# Altium footprint library WE-MAPI.PcbLib: 10 footprints
Each footprint in its own frame and in the unit in brackets; x right, y up, seen from the top. Pads: shape width x height; smd on the part's side, far side on the other; paste and mask are expansions set on the pad; w line width, h text height; cw(c..) or ccw(c..) is an arc to the next point about the centre after c.
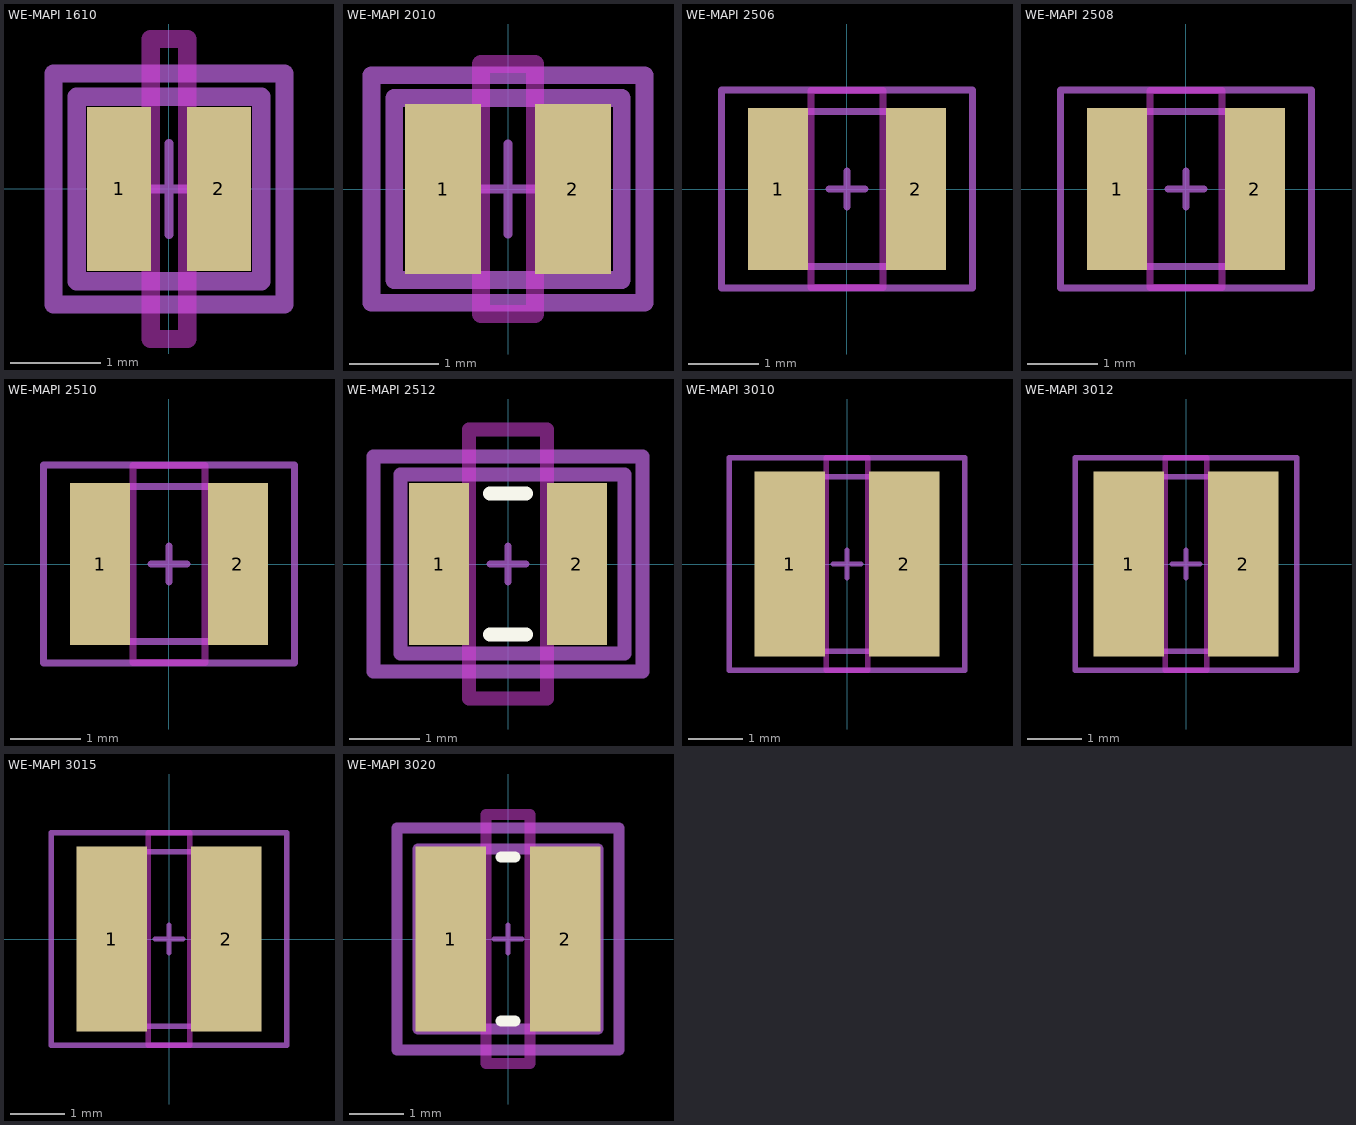
[diagram p0: the footprints below, top view; thin cyan lines are the x and y axes]

## WE-MAPI 1610 [mm] "Chip Inductor, 2-Leads, Body 1.6x 1.6mm,IPC Medium Density"
height 1
pads (2):
  rect 0.7x1.8 smd: 1(-0.55,0) 2(0.55,0)
Keep-Out Layer:
  lines w0.2: -0.2,-1.651 -0.2,1.651 0.2,1.651 0.2,-1.651 -0.2,-1.651
Mechanical 13:
  lines w0.2: -1.016,-1.016 1.016,-1.016 1.016,1.016 -1.016,1.016 -1.016,-1.016
Mechanical 15:
  lines w0.1: -0.5,0 0.5,0 ; 0,-0.5 0,0.5
  lines w0.2: -1.27,-1.27 1.27,-1.27 1.27,1.27 -1.27,1.27 -1.27,-1.27
  text ".Designator" at 0,0 h0.76
3D body: height 1, standoff 0, extent -0.8,-0.8 0.8,0.8

## WE-MAPI 2010 [mm] "Chip Inductor, 2-Leads, Body 2.5x 1.6mm,IPC Medium Density"
height 1
pads (2):
  rect 0.85x1.9 smd: 1(-0.725,0) 2(0.725,0)
Keep-Out Layer:
  lines w0.2: -0.3,-1.397 -0.3,1.397 0.3,1.397 0.3,-1.397 -0.3,-1.397
Mechanical 13:
  lines w0.2: -1.27,-1.016 -1.27,1.016 1.27,1.016 1.27,-1.016 -1.27,-1.016
Mechanical 15:
  lines w0.1: -0.5,0 0.5,0 ; 0,-0.5 0,0.5
  lines w0.2: -1.524,-1.27 -1.524,1.27 1.524,1.27 1.524,-1.27 -1.524,-1.27
  text ".Designator" at 0,0 h0.76
3D body: height 1, standoff 0, extent -1,-0.8 1,0.8

## WE-MAPI 2506 [mm] "Chip Inductor, 2-Leads, Body 2.5x2.0mm, IPC Medium Density"
height 0.6
pads (2):
  rect 0.85x2.3 smd: 1(-0.975,0) 2(0.975,0)
Keep-Out Layer:
  lines w0.1: -0.508,-1.397 -0.508,1.397 0.508,1.397 0.508,-1.397 -0.508,-1.397
Mechanical 13:
  lines w0.1: -1.35,-1.1 1.35,-1.1 1.35,1.1 -1.35,1.1 -1.35,-1.1
Mechanical 15:
  lines w0.1: -0.254,0 0.254,0 ; 0,-0.254 0,0.254 ; -1.778,-1.4 1.778,-1.4 1.778,1.4 -1.778,1.4 -1.778,-1.4
  text ".Designator" at 0,0 h0.76
3D body: height 0.6, standoff 0, extent -1.25,-1 1.25,1

## WE-MAPI 2508 [mm] "Chip Inductor, 2-Leads, Body 2.5x2.0mm, IPC Medium Density"
height 0.8
pads (2):
  rect 0.85x2.3 smd: 1(-0.975,0) 2(0.975,0)
Keep-Out Layer:
  lines w0.1: -0.508,-1.397 -0.508,1.397 0.508,1.397 0.508,-1.397 -0.508,-1.397
Mechanical 13:
  lines w0.1: -1.35,-1.1 1.35,-1.1 1.35,1.1 -1.35,1.1 -1.35,-1.1
Mechanical 15:
  lines w0.1: -0.254,0 0.254,0 ; 0,-0.254 0,0.254 ; -1.778,-1.4 1.778,-1.4 1.778,1.4 -1.778,1.4 -1.778,-1.4
  text ".Designator" at 0,0 h0.76
3D body: height 0.8, standoff 0, extent -1.25,-1 1.25,1

## WE-MAPI 2510 [mm] "Chip Inductor, 2-Leads, Body 2.5x2.0mm, IPC Medium Density"
height 1
pads (2):
  rect 0.85x2.3 smd: 1(-0.975,0) 2(0.975,0)
Keep-Out Layer:
  lines w0.1: -0.508,-1.397 0.508,-1.397 0.508,1.397 -0.508,1.397 -0.508,-1.397
Mechanical 13:
  lines w0.1: -1.35,-1.1 1.35,-1.1 1.35,1.1 -1.35,1.1 -1.35,-1.1
Mechanical 15:
  lines w0.1: -0.254,0 0.254,0 ; 0,-0.254 0,0.254 ; -1.778,-1.4 1.778,-1.4 1.778,1.4 -1.778,1.4 -1.778,-1.4
  text ".Designator" at 0,0 h0.76
3D body: height 1, standoff 0, extent -1.25,-1 1.25,1

## WE-MAPI 2512 [mm] "Chip Inductor, 2-Leads, Body 2.5x 2mm,IPC Medium Density"
height 1.2
pads (2):
  rect 0.85x2.3 smd: 1(-0.975,0) 2(0.975,0)
Top Overlay:
  lines w0.2: -0.254,-1 0.254,-1 ; -0.254,1 0.254,1
Keep-Out Layer:
  lines w0.2: -0.55,-1.905 -0.55,1.905 0.55,1.905 0.55,-1.905 -0.55,-1.905
Mechanical 13:
  lines w0.2: -1.524,-1.27 -1.524,1.27 1.651,1.27 1.651,-1.27 -1.524,-1.27
Mechanical 15:
  lines w0.1: -0.254,0 0.254,0 ; 0,-0.254 0,0.254
  lines w0.2: -1.905,-1.524 1.905,-1.524 1.905,1.524 -1.905,1.524 -1.905,-1.524
  text ".Designator" at 0,0 h0.76
3D body: height 1.2, standoff 0, extent -1.25,-1 1.25,1

## WE-MAPI 3010 [mm] "Chip Inductor, 2-Leads, Body 3.0x3.0mm, IPC Medium Density"
height 1
pads (2):
  rect 1.3x3.4 smd: 1(-1.05,0) 2(1.05,0)
Keep-Out Layer:
  lines w0.1: -0.381,-1.95 -0.381,1.95 0.381,1.95 0.381,-1.95 -0.381,-1.95
Mechanical 13:
  lines w0.1: -1.6,-1.6 -1.6,1.6 1.6,1.6 1.6,-1.6 -1.6,-1.6
Mechanical 15:
  lines w0.1: -0.254,0 0.254,0 ; 0,-0.254 0,0.254 ; -2.159,-1.95 -2.159,1.95 2.159,1.95 2.159,-1.95 -2.159,-1.95
  text ".Designator" at 0,0 h0.76
3D body: height 1, standoff 0, extent -1.5,-1.5 1.5,1.5

## WE-MAPI 3012 [mm] "Chip Inductor, 2-Leads, Body 3.0x3.0mm, IPC Medium Density"
height 1.2
pads (2):
  rect 1.3x3.4 smd: 1(-1.05,0) 2(1.05,0)
Keep-Out Layer:
  lines w0.1: -0.381,-1.95 -0.381,1.95 0.381,1.95 0.381,-1.95 -0.381,-1.95
Mechanical 13:
  lines w0.1: -1.6,-1.6 1.6,-1.6 1.6,1.6 -1.6,1.6 -1.6,-1.6
Mechanical 15:
  lines w0.1: -0.254,0 0.254,0 ; 0,-0.254 0,0.254 ; -2.032,-1.95 2.032,-1.95 2.032,1.95 -2.032,1.95 -2.032,-1.95
  text ".Designator" at 0,0 h0.76
3D body: height 1.2, standoff 0, extent -1.5,-1.5 1.5,1.5

## WE-MAPI 3015 [mm] "Chip Inductor, 2-Leads, Body 3.0x3.0mm, IPC Medium Density"
height 1.5
pads (2):
  rect 1.3x3.4 smd: 1(-1.05,0) 2(1.05,0)
Keep-Out Layer:
  lines w0.1: -0.381,-1.95 0.381,-1.95 0.381,1.95 -0.381,1.95 -0.381,-1.95
Mechanical 13:
  lines w0.1: -1.6,-1.6 -1.6,1.6 1.6,1.6 1.6,-1.6 -1.6,-1.6
Mechanical 15:
  lines w0.1: -0.254,0 0.254,0 ; 0,-0.254 0,0.254 ; -2.159,-1.95 -2.159,1.95 2.159,1.95 2.159,-1.95 -2.159,-1.95
  text ".Designator" at 0,0 h0.76
3D body: height 1.2, standoff 0, extent -1.5,-1.5 1.5,1.5

## WE-MAPI 3020 [mm] "Chip Inductor, 2-Leads, Body 3x 3mm,IPC Medium Density"
height 2
pads (2):
  rect 1.3x3.4 smd: 1(-1.05,0) 2(1.05,0)
Top Overlay:
  lines w0.2: -0.127,-1.5 0.127,-1.5 ; -0.127,1.5 0.127,1.5
Keep-Out Layer:
  lines w0.2: -0.4,-2.286 -0.4,2.286 0.4,2.286 0.4,-2.286 -0.4,-2.286
Mechanical 13:
  lines w0.2: -1.651,-1.651 -1.651,1.651 1.651,1.651 1.651,-1.651 -1.651,-1.651
Mechanical 15:
  lines w0.1: -0.254,0 0.254,0 ; 0,-0.254 0,0.254
  lines w0.2: -2.032,-2.032 2.032,-2.032 2.032,2.032 -2.032,2.032 -2.032,-2.032
  text ".Designator" at 0,0 h0.76
3D body: height 2, standoff 0, extent -1.5,-1.5 1.5,1.5